# EAGLE library part DPAN02 (library MW DPAN02)
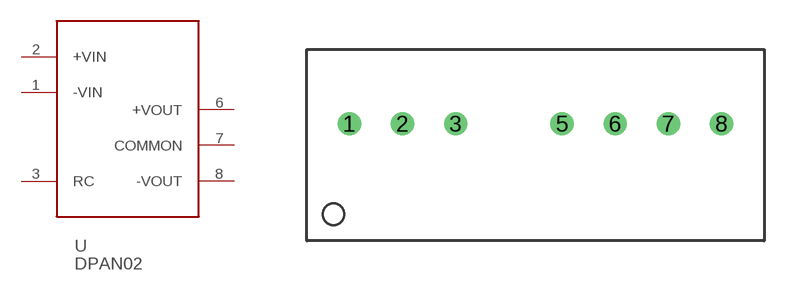
[diagram p0: symbol with the pads of SIP7; footprint SIP7]

Designator prefix -

## DPAN02  [SIP7]
1  -VIN  in
2  +VIN  in
3  RC  in
6  +VOUT  pas
7  COMMON  pas
8  -VOUT  pas

## Footprint SIP7 (pad centres in mm)
drill 0.6: 1 2.032,5.588; 2 4.572,5.588; 3 7.112,5.588; 5 12.192,5.588; 6 14.732,5.588; 7 17.272,5.588; 8 19.812,5.588